# EAGLE library part WE-D-SUB_THT_UNC4/40_212611023 (library WE-D-SUB)
WE-D-SUB Filter Solder Pin Straight Characteristics Standard type filtered with 1000 pF High attenuation: max. ≥ 40 dB @ 180 MHz Choice of UNC 4/40 or through hole Rated voltage: 100 VDC Rated current @ 20 ºC: 5 A Withstand voltage: 250 VRMS Insulation resistance: min. 1000 MΩ Operating temperature: –55 ºC to +125 ºC Applications Filtering of interfaces External connection to -printer -sensor -display Device and Package Name Note: UNC 4/40 means Size UNC 4/40 <https://katalog.we-online.de/media/images/v2/o14707v209%20Family_D-SUB-Filter_mit_geradem_Loetstift.jpg> Details see: https://katalog.we-online.de/en/pbs/D-SUB-FILTER-STRAIGHT Updated by Ella Wu 2019-09-10 2019(C) Wurth Elektronik
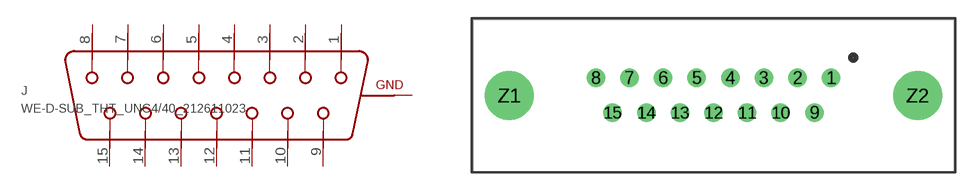
[diagram p35: symbol with the pads of WE-D-SUB_THT_UNC4/40_212611023; footprint WE-D-SUB_THT_UNC4/40_212611023]

Designator prefix J

## WE-D-SUB_THT_UNC4/40_212611023 (DATASHEET-URL: https://katalog.we-online.de/pbs/datasheet/212611023.pdf; MOUNT: THT; PART-NUMBER: 212611023; POLES: 15; TYPE: Female)  [WE-D-SUB_THT_UNC4/40_212611023]
1  8  pas
2  7  pas
3  6  pas
4  5  pas
5  4  pas
6  3  pas
7  2  pas
8  1  pas
9  15  pas
10  14  pas
11  13  pas
12  12  pas
13  11  pas
14  10  pas
15  9  pas
Z1  GND  pas
Z2  GND  pas

## Footprint WE-D-SUB_THT_UNC4/40_212611023 (pad centres in mm)
WE-D-SUB Filter Solder Pin Straight 15 Poles , Female UNC 4/40 means Size UNC 4/40
drill 1: 1 9.6,1.42; 2 6.86,1.42; 3 4.11,1.42; 4 1.37,1.42; 5 -1.37,1.42; 6 -4.11,1.42; 7 -6.86,1.42; 8 -9.6,1.42; 9 8.23,-1.42; 10 5.48,-1.42; 11 2.74,-1.42; 12 0,-1.42; 13 -2.74,-1.42; 14 -5.48,-1.42; 15 -8.23,-1.42
drill 3: Z1 -16.65,0; Z2 16.65,0